# Altium schematic symbol library Symbols.SchLib: 31 symbols
Pins are listed as number, name and electrical type; pins without a type are passive.

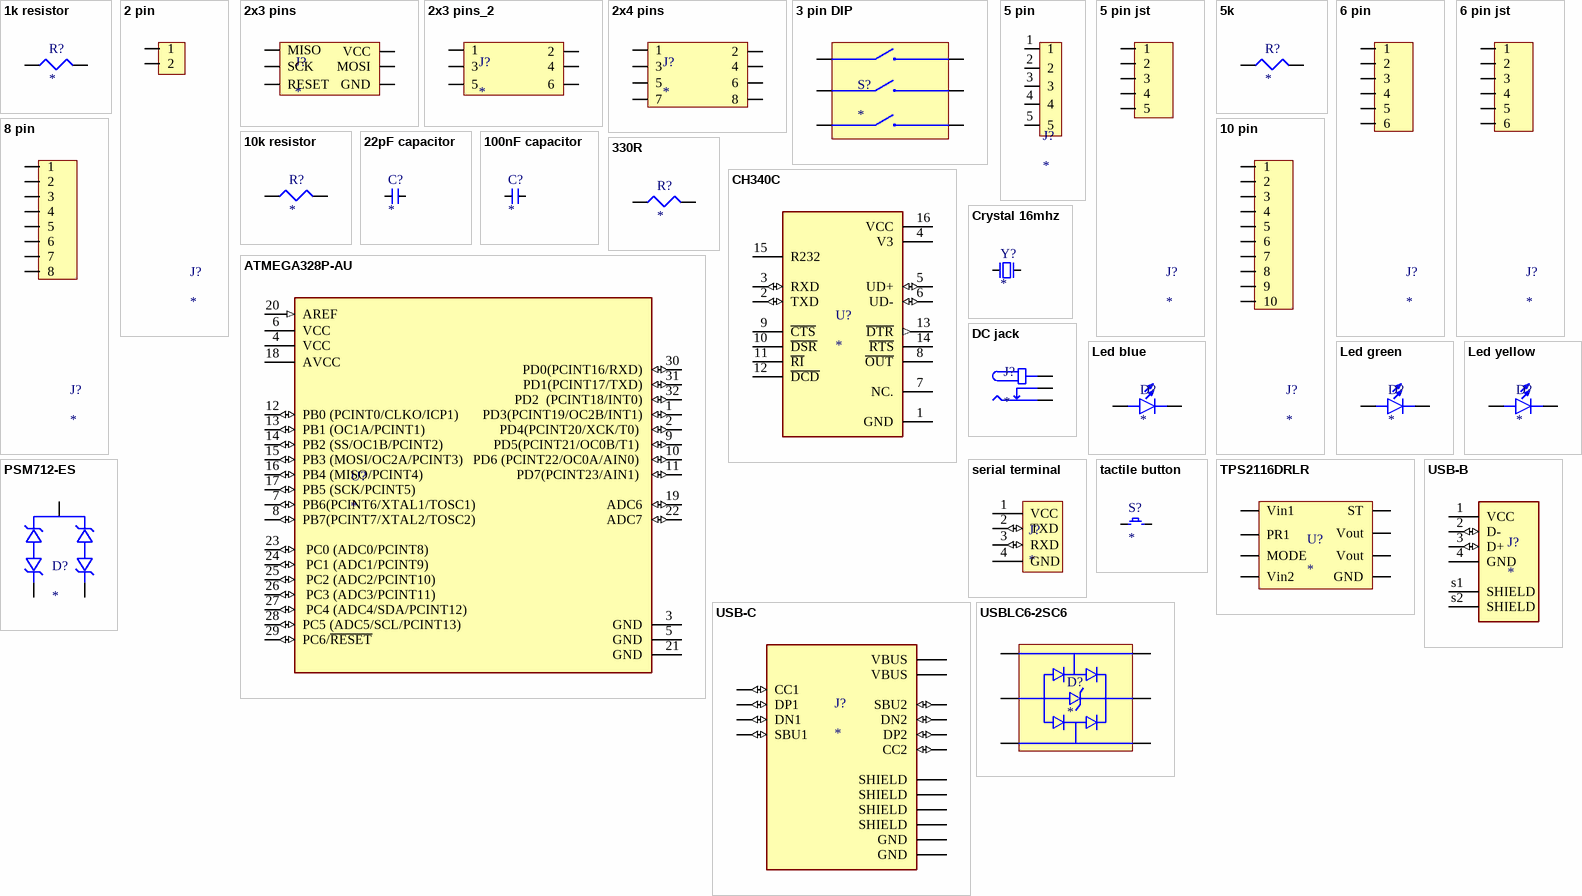
[diagram p0: symbols 1k resistor to USBLC6-2SC6]

## 1k resistor
designator R?
100mW Thick Film Resistors 75V ±100ppm/℃ ±1% 1kΩ 0603 Chip Resistor - Surface Mount ROHS; Manufacturer: UNI-ROYAL(Uniroyal Elec); Mfr. Part #: 0603WAF1001T5E; supplier: LCSC; LCSC Part #: C21190
footprint 0603 cap
pins: 1, 2

## 2 pin
designator J?
Straight Square Pins 2.5mm 6mm 2P -40℃~+105℃ 3mm 2.54mm Black Brass Plugin 1x2P Plugin,P=2.54mm Pin Headers ROHS; Manufacturer: XUNPU; Mfr. Part #: PH2.54-01-02PZD; supplier: LCSC; LCSC Part #: C7501580
footprint 2 pin header
pins: 1, 2

## 2x3 pins
designator J?
Straight 2.54mm 6mm 6P 3mm 2.54mm 双排 2x3P Plugin,P=2.54mm Pin Headers ROHS; Manufacturer: HanElectricity; Mfr. Part #: 2541WV-2x03P; supplier: LCSC; LCSC Part #: C5383104
footprint 2x3 pins
pins: 1 MISO, 2 VCC, 3 SCK, 4 MOSI, 5 RESET, 6 GND

## 2x3 pins_2
designator J?
Straight 2.54mm 6mm 6P 3mm 2.54mm 双排 2x3P Plugin,P=2.54mm Pin Headers ROHS; Manufacturer: HanElectricity; Mfr. Part #: 2541WV-2x03P; supplier: LCSC; LCSC Part #: C5383104
footprint 2x3 pins
pins: 1, 2, 3, 4, 5, 6

## 2x4 pins
designator J?
3A Straight Square Pins 2.5mm 8P 6mm -40℃~+105℃ 3mm 2.54mm 双排 Black 2.54mm 2x4P Plugin,P=2.54mm Pin Headers ROHS; Manufacturer: Liansheng; Mfr. Part #: PH-00179; supplier: LCSC; LCSC Part #: C2829882
footprint 2x4 pins
pins: 1, 2, 3, 4, 5, 6, 7, 8

## 3 pin DIP
designator S?
3Bit Red Plugin DIP Switches ROHS; Manufacturer: CONNFLY; Mfr. Part #: DS1040-03RN; supplier: LCSC; LCSC Part #: C3024969
footprint DIP switch
pins: 1, 2, 3, 4, 5, 6

## 5 pin
designator J?
1x5P 5P XH 1 2.5mm 5 Plugin,P=2.5mm Wire To Board Connector ROHS; Manufacturer: BOOMELE; Mfr. Part #: XH-5A; Supplier: LCSC; LCSC Part #: C2318
footprint jst 5 pin
pins: 1, 2, 3, 4, 5

## 5 pin jst
designator J?
1x5P 5P XH 1 2.5mm 6 Plugin,P=2.5mm Wire To Board Connector ROHS; Manufacturer: BOOMELE; Mfr. Part #: XH-6A; supplier: LCSC; LCSC Part #: C5663
footprint 5 jst
pins: 1, 2, 3, 4, 5

## 5k
designator R?
100mW Thick Film Resistors 75V ±100ppm/℃ ±1% 330Ω 0603 Chip Resistor - Surface Mount ROHS; Manufacturer: UNI-ROYAL(Uniroyal Elec); Mfr. Part #: 0603WAF5101T5E; supplier: LCSC; LCSC Part #: C23186
footprint 0603 cap
pins: 1, 2

## 6 pin
designator J?
2.54mm Plugin 6P Straight 1x6P Plugin,P=2.54mm Female Headers ROHS; Manufacturer: BOOMELE; Mfr. Part #: 2.54-1*6P; supplier: LCSC; LCSC Part #: C40877
footprint 6 pin header
pins: 1, 2, 3, 4, 5, 6

## 6 pin jst
designator J?
1x6P 6P XH 1 2.5mm 6 Plugin,P=2.5mm Wire To Board Connector ROHS; Manufacturer: BOOMELE; Mfr. Part #: XH-6A; supplier: LCSC; LCSC Part #: C5663
footprint 6 jst
pins: 1, 2, 3, 4, 5, 6

## 8 pin
designator J?
2.54mm Plugin 8P Straight 1x8P Plugin,P=2.54mm Female Headers ROHS; Manufacturer: BOOMELE; Mfr. Part #: 2.54-1*8P; supplier: LCSC; LCSC Part #: C27438
footprint 8 pin heade
pins: 1, 2, 3, 4, 5, 6, 7, 8

## 10 pin
designator J?
2.54mm Plugin 3A 10P -40℃~+105℃ Straight 1x10P 8.5mm Top Square Holes Plugin,P=2.54mm Female Headers ROHS; Manufacturer: Shenzhen Kinghelm Elec; Mfr. Part #: KH-2.54FH-1X10P-H8.5; supplier: LCSC; LCSC Part #: C2905418
footprint 10 pin header
pins: 1, 2, 3, 4, 5, 6, 7, 8, 9, 10

## 10k resistor
designator R?
100mW Thick Film Resistors 75V ±100ppm/℃ ±1% 10kΩ 0603 Chip Resistor - Surface Mount ROHS; Manufacturer: UNI-ROYAL(Uniroyal Elec); Mfr. Part #: 0603WAF1002T5E; supplier: LCSC; LCSC Part #: C25804
footprint 0603 cap
pins: 1, 2

## 22pF capacitor
designator C?
50V 22pF C0G ±5% 0603 Multilayer Ceramic Capacitors MLCC - SMD/SMT ROHS; Manufacturer: PSA(Prosperity Dielectrics); Mfr. Part #: FN18N220J500PSG; supplier: LCSC; LCSC Part #: C525244
footprint 0603 cap
pins: 1, 2

## 100nF capacitor
designator C?
50V 100nF X7R ±10% 0603 Multilayer Ceramic Capacitors MLCC - SMD/SMT ROHS; Manufacturer: PSA(Prosperity Dielectrics); Mfr. Part #: FN18X104K500PBG; supplier: LCSC; LCSC Part #: C235731
footprint 0603 cap
pins: 1, 2

## 330R
designator R?
100mW Thick Film Resistors 75V ±100ppm/℃ ±1% 330Ω 0603 Chip Resistor - Surface Mount ROHS; Manufacturer: UNI-ROYAL(Uniroyal Elec); Mfr. Part #: 0603WAF3300T5E; supplier: LCSC; LCSC Part #: C23138
footprint 0603 cap
pins: 1, 2

## ATMEGA328P-AU
designator U?
32KB 2KB FLASH 23 1.8V~5.5V AVR 20MHz TQFP-32(7x7) Microcontroller Units (MCUs/MPUs/SOCs) ROHS; Manufacturer: Microchip Tech; Mfr. Part #: ATMEGA328P-AU; supplier: LCSC; LCSC Part #: C14877
footprint Quad32
pins: 1 PD3(PCINT19/OC2B/INT1) (io), 2 PD4(PCINT20/XCK/T0)  (io), 3 GND (power), 4 VCC (power), 5 GND (power), 6 VCC (power), 7 PB6(PCINT6/XTAL1/TOSC1) (io), 8 PB7(PCINT7/XTAL2/TOSC2) (io), 9 PD5(PCINT21/OC0B/T1)  (io), 10 PD6 (PCINT22/OC0A/AIN0)  (io), 11 PD7(PCINT23/AIN1)  (io), 12 PB0 (PCINT0/CLKO/ICP1) (io), 13 PB1 (OC1A/PCINT1) (io), 14 PB2 (SS/OC1B/PCINT2) (io), 15 PB3 (MOSI/OC2A/PCINT3) (io), 16 PB4 (MISO/PCINT4) (io), 17 PB5 (SCK/PCINT5) (io), 18 AVCC (power), 19 ADC6 (io), 20 AREF (in), 21 GND (power), 22 ADC7 (io), 23  PC0 (ADC0/PCINT8) (io), 24  PC1 (ADC1/PCINT9) (io), 25  PC2 (ADC2/PCINT10) (io), 26  PC3 (ADC3/PCINT11) (io), 27  PC4 (ADC4/SDA/PCINT12) (io), 28 PC5 (ADC5/SCL/PCINT13) (io), 29 PC6/~{RESET} (io), 30 PD0(PCINT16/RXD) (io), 31 PD1(PCINT17/TXD) (io), 32 PD2  (PCINT18/INT0) (io)

## CH340C
designator U?
2Mbps Transceiver USB 2.0 SOP-16 USB ICs ROHS; Manufacturer: WCH; Mfr. Part #: CH340C; supplier: LCSC; LCSC Part #: C84681
footprint sop 16
pins: 1 GND (power), 2 TXD (io), 3 RXD (io), 4 V3 (power), 5 UD+ (io), 6 UD- (io), 7 NC., 8 ~{OUT}, 9 ~{CTS}, 10 ~{DSR}, 11 ~{RI}, 12 ~{DCD}, 13 ~{DTR} (out), 14 ~{RTS}, 15 R232, 16 VCC (power)

## Crystal 16mhz
designator Y?
16MHz 16pF ±20ppm ±20ppm HC-49S-SMD Crystals ROHS; Manufacturer: KYX; Mfr. Part #: KBD160001620; supplier: LCSC; LCSC Part #: C18209148
footprint crystal
pins: 1, 2

## DC jack
designator J?
Panel Mounting DC Power Receptacle 260℃ Brass -20℃~+70℃ 2mm 6.2mm 2.5A 24V Plugin DC Power Connector ROHS; Manufacturer: XKB Connection; Mfr. Part #: DC-005-2.5A-2.0; Supplier: LCSC; LCSC Part #: C319099
footprint DC jack
pins: 1, 2, 3

## Led blue
designator D?
5mA 无色透明透镜 -40℃~+85℃ 460nm~475nm Blue 120° 100mW 0805 Light Emitting Diodes (LED) ROHS; Manufacturer: Yongyu Photoelectric; Mfr. Part #: SZYY0805B; supplier: LCSC; LCSC Part #: C434433
footprint 0805led
pins: 1, 2

## Led green
designator D?
Emerald 0805 Light Emitting Diodes (LED) ROHS; Manufacturer: Yongyu Photoelectric; Mfr. Part #: SZYY0805G; supplier: LCSC; LCSC Part #: C434432
footprint 0805led
pins: 1, 2

## Led yellow
designator D?
10mA 无色透明透镜 -40℃~+85℃ 584nm~594nm Yellow 120° 40mW 0805 Light Emitting Diodes (LED) ROHS; Manufacturer: Yongyu Photoelectric; Mfr. Part #: SZYY0805Y; supplier: LCSC; LCSC Part #: C434436
footprint 0805led
pins: 1, 2

## PSM712-ES
designator D?
17A 350W Bi-Directional SOT-23 Electrostatic and Surge Protection (TVS/ESD) ROHS; Manufacturer: ElecSuper; Mfr. Part #: PSM712-ES; Supplier: LCSC; LCSC Part #: C5180294
footprint sop23
pins: 1, 2, 3

## serial terminal
designator J?
1x4P 4P XH 1 2.5mm 4 Phosphor bronze Plugin,P=2.5mm Wire To Board Connector ROHS; Manufacturer: BOOMELE; Mfr. Part #: XH-4A; Supplier: LCSC; LCSC Part #: C37815
footprint jst 4 pin
pins: 1 VCC, 2 TXD (io), 3 RXD (io), 4 GND

## tactile button
designator S?
No 不带 50mA 6mm 100MΩ 100,000 Times 12V 250gf 3.6mm 2.5mm Rectangle button Brick nogging SPST SMD Tactile Switches ROHS; Manufacturer: USAKRO; Mfr. Part #: UK-B0240-R-250; supplier: LCSC; LCSC Part #: C556660
footprint button
pins: 1, 2

## TPS2116DRLR
designator U?
1.6V~5.5V 42mΩ 2.5A 1 SOT-583 Power Distribution Switches ROHS; Manufacturer: Texas Instruments; Mfr. Part #: TPS2116DRLR; supplier: LCSC; LCSC Part #: C3235557
footprint SOP8
pins: 1 GND, 2 Vout, 3 Vin1, 4 PR1, 5 MODE, 6 Vin2, 7 Vout, 8 ST

## USB-B
designator J?
USB 2.0 1 4P Female Type-B Plugin USB Connectors ROHS / ROHS; Manufacturer: Jing Extension of the Electronic Co.; Mfr. Part #: 921-111A1010D10200; supplier: LCSC; LCSC Part #: C46392
footprint USB
pins: 1 VCC (power), 2 D- (io), 3 D+ (io), 4 GND (power), s1 SHIELD, s2 SHIELD

## USB-C
designator J?
5A 1 16P Female Type-C SMD USB Connectors ROHS; Manufacturer: Korean Hroparts Elec; Mfr. Part #: TYPE-C-31-M-12; supplier: LCSC; LCSC Part #: C165948
footprint USB-C
pins: A1/B12 GND (power), A4/B9 VBUS (power), A5 CC1 (io), A6 DP1 (io), A7 DN1 (io), A8 SBU1 (io), B1/A12 GND (power), B4/A9 VBUS (power), B5 CC2 (io), B6 DP2 (io), B7 DN2 (io), B8 SBU2 (io), S1 SHIELD, S2 SHIELD, S3 SHIELD, S4 SHIELD

## USBLC6-2SC6
designator D?
5A 17V 6V Unidirectional 5.25V SOT-23-6 Electrostatic and Surge Protection (TVS/ESD) ROHS; Manufacturer: STMicroelectronics; Mfr. Part #: USBLC6-2SC6; supplier: LCSC; LCSC Part #: C7519
footprint SOP23-6l
pins: 1 I/O 1, 2 GND, 3 I/O 2, 4 I/O 2, 5 Vbus, 6 I/O 1